# Altium footprint library CAPPA1396W54L432D241.PcbLib: 1 footprints
Each footprint in its own frame and in the unit in brackets; x right, y up, seen from the top. Pads: shape width x height; smd on the part's side, far side on the other; paste and mask are expansions set on the pad; w line width, h text height; cw(c..) or ccw(c..) is an arc to the next point about the centre after c.
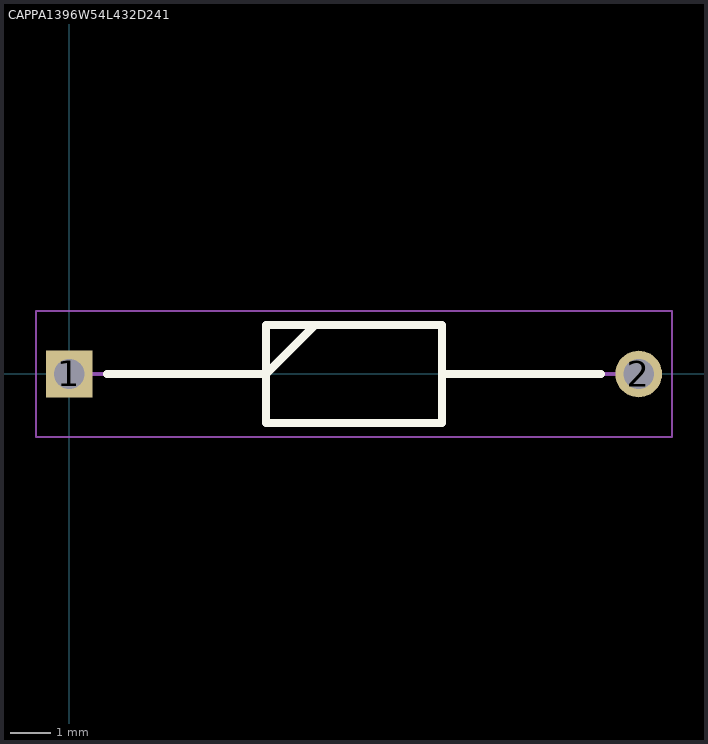
[diagram p0: the footprint, top view; thin cyan lines are the x and y axes]

## CAPPA1396W54L432D241 [mm]
pads (2):
  rect 1.15x1.15 / inner round 1.15 / far side rect 1.15x1.15 hole 0.75: 1(0,0)
  round 1.15 hole 0.75: 2(14,0)
Top Overlay:
  lines w0.2: 0.925,0 4.84,0 6.045,1.205 ; 9.16,0 13.075,0 ; 4.84,-1.205 9.16,-1.205 9.16,1.205 4.84,1.205 4.84,-1.205
Mechanical 15:
  lines w0.1: 0,0 4.84,0 6.045,1.205 ; 9.16,0 14,0 ; 4.84,-1.205 9.16,-1.205 9.16,1.205 4.84,1.205 4.84,-1.205
Mechanical 20:
  lines w0.05: -0.825,-1.555 14.825,-1.555 14.825,1.555 -0.825,1.555 -0.825,-1.555
3D body "C410C200K3G5TA.stp": height 5.8, standoff -4.65, extent -10,-3.376 10,3.376